# Altium schematic symbol library SCH - POWER - LINEAR VREG - TI TPS78101_DRV_6.SchLib: 1 symbol
Pins are listed as number, name and electrical type; pins without a type are passive.

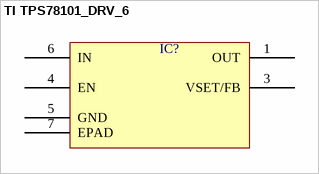
[diagram p0: symbol TI TPS78101_DRV_6]

## TI TPS78101_DRV_6
designator IC?  (value not drawn)
pins: 1 OUT, 3 VSET/FB, 4 EN, 5 GND, 6 IN, 7 EPAD